# EAGLE library part A111CHIP (library SHARD-1)
Package for A111 chip
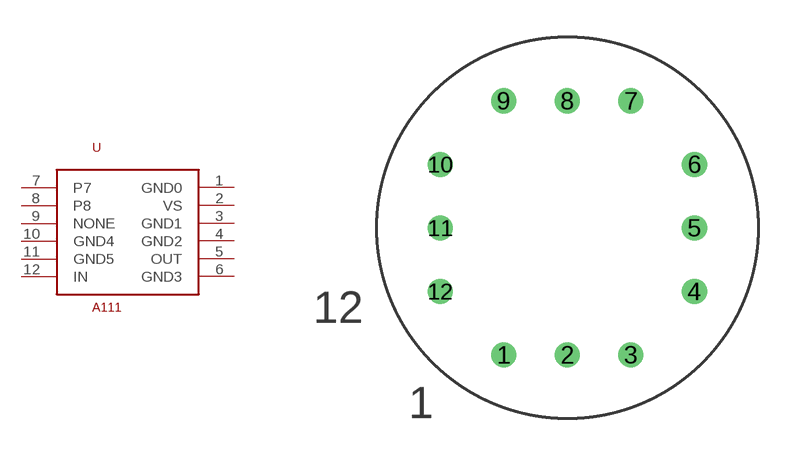
[diagram p1: symbol with the pads of A111CHIP; footprint A111CHIP]

Designator prefix -

## A111CHIP  [A111CHIP]
1  GND0
2  VS
3  GND1
4  GND2
5  OUT
6  GND3
7  P7
8  P8
9  NONE
10  GND4
11  GND5
12  IN

## Footprint A111CHIP (pad centres in mm)
drill 0.5: 1 -2.54,-5.08; 2 0,-5.08; 3 2.54,-5.08; 4 5.08,-2.54; 5 5.08,0; 6 5.08,2.54; 7 2.54,5.08; 8 0,5.08; 9 -2.54,5.08; 10 -5.08,2.54; 11 -5.08,0; 12 -5.08,-2.54